# Altium footprint library TI - ADC.PcbLib: 213 footprints (part 2 of 14)
Each footprint in its own frame and in the unit in brackets; x right, y up, seen from the top. Pads: shape width x height; smd on the part's side, far side on the other; paste and mask are expansions set on the pad; w line width, h text height; cw(c..) or ccw(c..) is an arc to the next point about the centre after c.
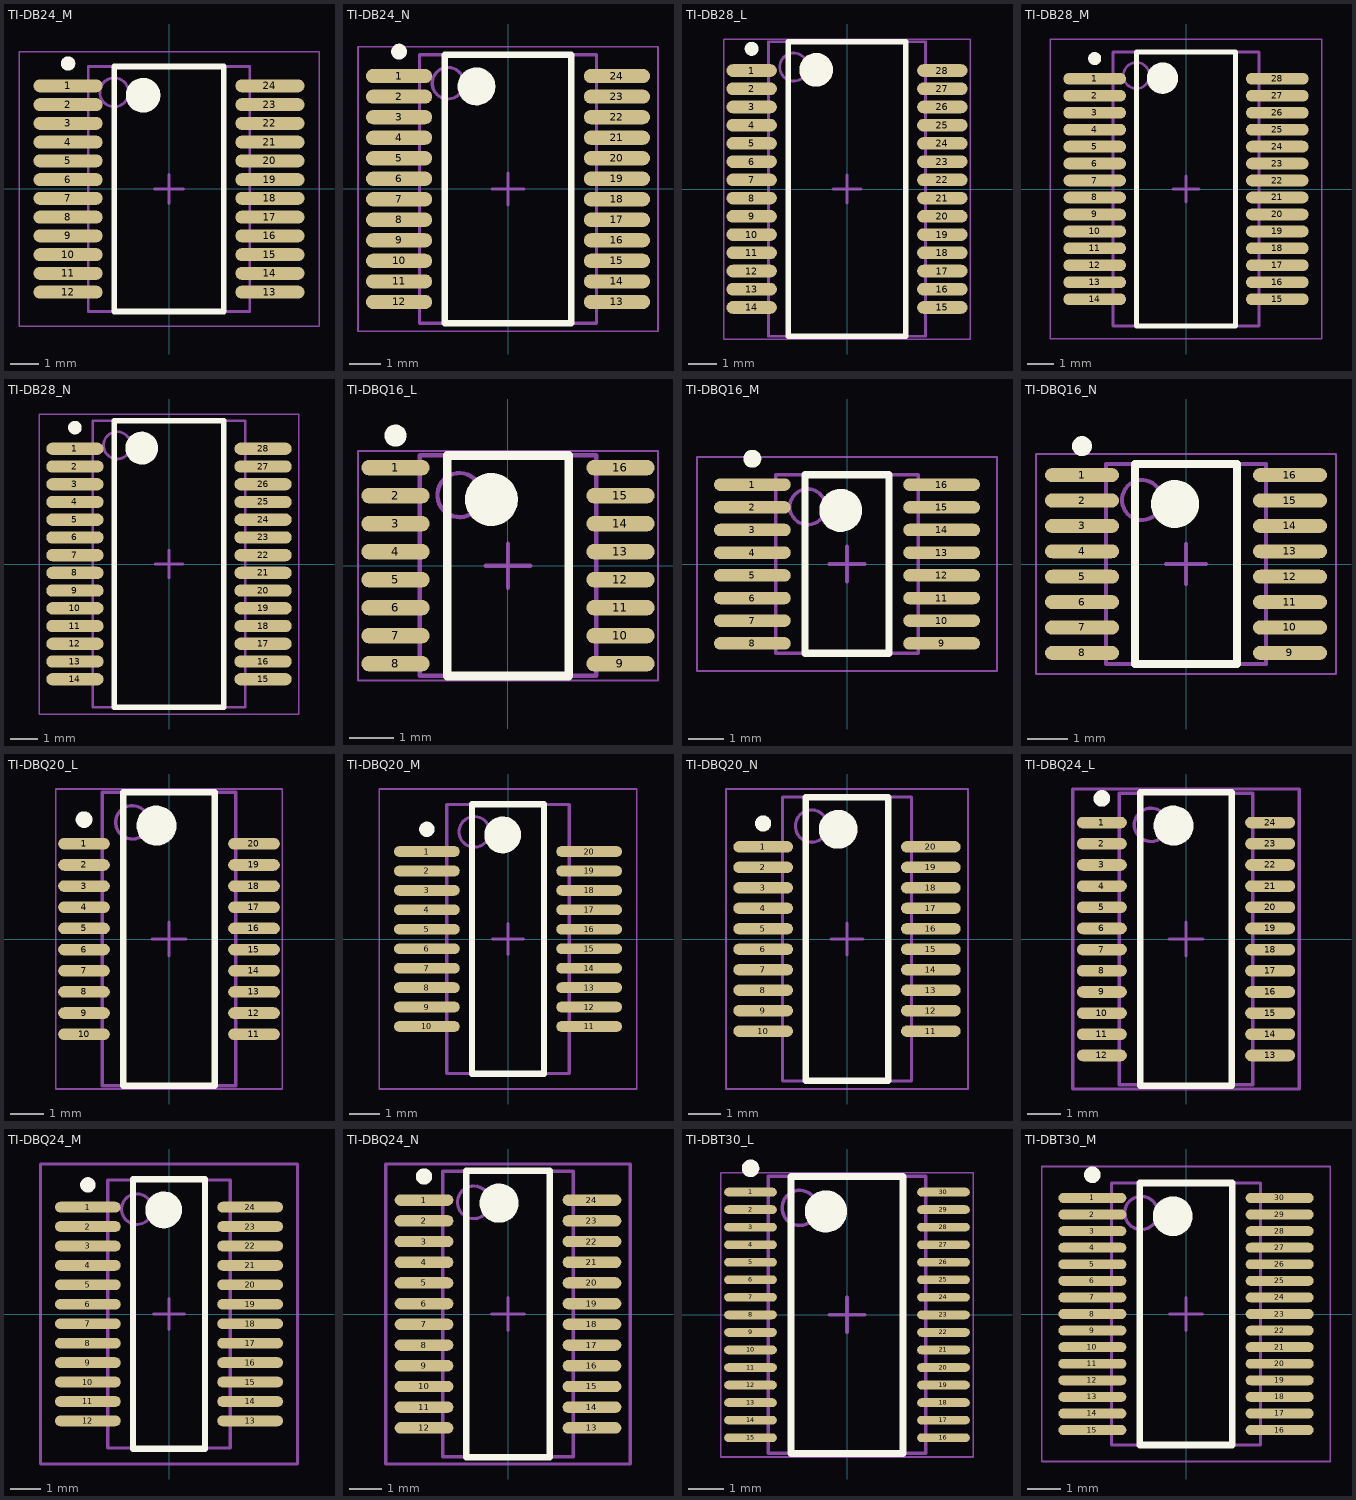
[diagram p1: the footprints below, top view; thin cyan lines are the x and y axes]

## TI-DB24_M [mm] "SOP, 24-Leads, Body 8.2x5.3mm, Pitch 0.65mm, IPC Low Density"
height 2
pads (24):
  oval 2.4x0.45 smd: 1(-3.5,3.575) 2(-3.5,2.925) 3(-3.5,2.275) 4(-3.5,1.625) 5(-3.5,0.975) 6(-3.5,0.325) 7(-3.5,-0.325) 8(-3.5,-0.975) 9(-3.5,-1.625) 10(-3.5,-2.275) 11(-3.5,-2.925) 12(-3.5,-3.575) 13(3.5,-3.575) 14(3.5,-2.925) 15(3.5,-2.275) 16(3.5,-1.625) 17(3.5,-0.975) 18(3.5,-0.325) 19(3.5,0.325) 20(3.5,0.975) 21(3.5,1.625) 22(3.5,2.275) 23(3.5,2.925) 24(3.5,3.575)
Top Overlay:
  circle w0.25: c-3.5,4.35 r0.125
  circle w0.6: c-0.9,3.25 r0.3
  lines w0.2: -1.9,-4.25 -1.9,4.25 1.9,4.25 1.9,-4.25 -1.9,-4.25
Mechanical 13:
  circle w0.1: c-1.9,3.35 r0.5
  lines w0.1: -2.8,-4.25 -2.8,4.25 2.8,4.25 2.8,-4.25 -2.8,-4.25
Mechanical 15:
  lines w0.05: -5.2,-4.75 -5.2,4.75 5.2,4.75 5.2,-4.75 -5.2,-4.75
  lines w0.1: -0.5,0 0.5,0 ; 0,-0.5 0,0.5
3D body: height 2, standoff 0.05, extent -2.8,-4.25 2.8,4.25

## TI-DB24_N [mm] "SOP, 24-Leads, Body 8.2x5.3mm, Pitch 0.65mm, IPC Medium Density"
height 2
pads (24):
  oval 2.1x0.45 smd: 1(-3.45,3.575) 2(-3.45,2.925) 3(-3.45,2.275) 4(-3.45,1.625) 5(-3.45,0.975) 6(-3.45,0.325) 7(-3.45,-0.325) 8(-3.45,-0.975) 9(-3.45,-1.625) 10(-3.45,-2.275) 11(-3.45,-2.925) 12(-3.45,-3.575) 13(3.45,-3.575) 14(3.45,-2.925) 15(3.45,-2.275) 16(3.45,-1.625) 17(3.45,-0.975) 18(3.45,-0.325) 19(3.45,0.325) 20(3.45,0.975) 21(3.45,1.625) 22(3.45,2.275) 23(3.45,2.925) 24(3.45,3.575)
Top Overlay:
  circle w0.25: c-3.45,4.35 r0.125
  circle w0.6: c-1,3.25 r0.3
  lines w0.2: -2,-4.25 -2,4.25 2,4.25 2,-4.25 -2,-4.25
Mechanical 13:
  circle w0.1: c-1.9,3.35 r0.5
  lines w0.1: -2.8,-4.25 -2.8,4.25 2.8,4.25 2.8,-4.25 -2.8,-4.25
Mechanical 15:
  lines w0.05: -4.75,-4.5 -4.75,4.5 4.75,4.5 4.75,-4.5 -4.75,-4.5
  lines w0.1: -0.5,0 0.5,0 ; 0,-0.5 0,0.5
3D body: height 2, standoff 0.05, extent -2.8,-4.25 2.8,4.25

## TI-DB28_L [mm] "SOP, 28-Leads, Body 10.2x5.3mm, Pitch 0.65mm, IPC High Density"
height 2
pads (28):
  oval 1.8x0.45 smd: 1(-3.4,4.225) 2(-3.4,3.575) 3(-3.4,2.925) 4(-3.4,2.275) 5(-3.4,1.625) 6(-3.4,0.975) 7(-3.4,0.325) 8(-3.4,-0.325) 9(-3.4,-0.975) 10(-3.4,-1.625) 11(-3.4,-2.275) 12(-3.4,-2.925) 13(-3.4,-3.575) 14(-3.4,-4.225) 15(3.4,-4.225) 16(3.4,-3.575) 17(3.4,-2.925) 18(3.4,-2.275) 19(3.4,-1.625) 20(3.4,-0.975) 21(3.4,-0.325) 22(3.4,0.325) 23(3.4,0.975) 24(3.4,1.625) 25(3.4,2.275) 26(3.4,2.925) 27(3.4,3.575) 28(3.4,4.225)
Top Overlay:
  circle w0.25: c-3.4,5 r0.125
  circle w0.6: c-1.1,4.25 r0.3
  lines w0.2: -2.1,-5.25 -2.1,5.25 2.1,5.25 2.1,-5.25 -2.1,-5.25
Mechanical 13:
  circle w0.1: c-1.9,4.35 r0.5
  lines w0.1: -2.8,-5.25 -2.8,5.25 2.8,5.25 2.8,-5.25 -2.8,-5.25
Mechanical 15:
  lines w0.05: -4.4,-5.35 -4.4,5.35 4.4,5.35 4.4,-5.35 -4.4,-5.35
  lines w0.1: -0.5,0 0.5,0 ; 0,-0.5 0,0.5
3D body: height 2, standoff 0.05, extent -2.8,-5.25 2.8,5.25

## TI-DB28_M [mm] "SOP, 28-Leads, Body 10.2x5.3mm, Pitch 0.65mm, IPC Low Density"
height 2
pads (28):
  oval 2.4x0.45 smd: 1(-3.5,4.225) 2(-3.5,3.575) 3(-3.5,2.925) 4(-3.5,2.275) 5(-3.5,1.625) 6(-3.5,0.975) 7(-3.5,0.325) 8(-3.5,-0.325) 9(-3.5,-0.975) 10(-3.5,-1.625) 11(-3.5,-2.275) 12(-3.5,-2.925) 13(-3.5,-3.575) 14(-3.5,-4.225) 15(3.5,-4.225) 16(3.5,-3.575) 17(3.5,-2.925) 18(3.5,-2.275) 19(3.5,-1.625) 20(3.5,-0.975) 21(3.5,-0.325) 22(3.5,0.325) 23(3.5,0.975) 24(3.5,1.625) 25(3.5,2.275) 26(3.5,2.925) 27(3.5,3.575) 28(3.5,4.225)
Top Overlay:
  circle w0.25: c-3.5,5 r0.125
  circle w0.6: c-0.9,4.25 r0.3
  lines w0.2: -1.9,-5.25 -1.9,5.25 1.9,5.25 1.9,-5.25 -1.9,-5.25
Mechanical 13:
  circle w0.1: c-1.9,4.35 r0.5
  lines w0.1: -2.8,-5.25 -2.8,5.25 2.8,5.25 2.8,-5.25 -2.8,-5.25
Mechanical 15:
  lines w0.05: -5.2,-5.75 -5.2,5.75 5.2,5.75 5.2,-5.75 -5.2,-5.75
  lines w0.1: -0.5,0 0.5,0 ; 0,-0.5 0,0.5
3D body: height 2, standoff 0.05, extent -2.8,-5.25 2.8,5.25

## TI-DB28_N [mm] "SOP, 28-Leads, Body 10.2x5.3mm, Pitch 0.65mm, IPC Medium Density"
height 2
pads (28):
  oval 2.1x0.45 smd: 1(-3.45,4.225) 2(-3.45,3.575) 3(-3.45,2.925) 4(-3.45,2.275) 5(-3.45,1.625) 6(-3.45,0.975) 7(-3.45,0.325) 8(-3.45,-0.325) 9(-3.45,-0.975) 10(-3.45,-1.625) 11(-3.45,-2.275) 12(-3.45,-2.925) 13(-3.45,-3.575) 14(-3.45,-4.225) 15(3.45,-4.225) 16(3.45,-3.575) 17(3.45,-2.925) 18(3.45,-2.275) 19(3.45,-1.625) 20(3.45,-0.975) 21(3.45,-0.325) 22(3.45,0.325) 23(3.45,0.975) 24(3.45,1.625) 25(3.45,2.275) 26(3.45,2.925) 27(3.45,3.575) 28(3.45,4.225)
Top Overlay:
  circle w0.25: c-3.45,5 r0.125
  circle w0.6: c-1,4.25 r0.3
  lines w0.2: -2,-5.25 -2,5.25 2,5.25 2,-5.25 -2,-5.25
Mechanical 13:
  circle w0.1: c-1.9,4.35 r0.5
  lines w0.1: -2.8,-5.25 -2.8,5.25 2.8,5.25 2.8,-5.25 -2.8,-5.25
Mechanical 15:
  lines w0.05: -4.75,-5.5 -4.75,5.5 4.75,5.5 4.75,-5.5 -4.75,-5.5
  lines w0.1: -0.5,0 0.5,0 ; 0,-0.5 0,0.5
3D body: height 2, standoff 0.05, extent -2.8,-5.25 2.8,5.25

## TI-DBQ16_L [mm] "SOP, 16-Leads, Body 4.9x3.9mm, Pitch 0.635mm, IPC High Density"
height 1.75
pads (16):
  oval 1.55x0.35 smd: 1(-2.55,2.222) 2(-2.55,1.587) 3(-2.55,0.953) 4(-2.55,0.318) 5(-2.55,-0.318) 6(-2.55,-0.953) 7(-2.55,-1.587) 8(-2.55,-2.222) 9(2.55,-2.222) 10(2.55,-1.587) 11(2.55,-0.953) 12(2.55,-0.318) 13(2.55,0.318) 14(2.55,0.953) 15(2.55,1.587) 16(2.55,2.222)
Top Overlay:
  circle w0.6: c-0.375,1.5 r0.3
  circle w0.25: c-2.55,2.947 r0.125
  lines w0.2: -1.375,-2.5 1.375,-2.5 1.375,2.5 -1.375,2.5 -1.375,-2.5
Mechanical 13:
  circle w0.1: c-1.1,1.6 r0.5
  lines w0.1: -2,-2.5 2,-2.5 2,2.5 -2,2.5 -2,-2.5
Mechanical 15:
  lines w0.05: -3.4,-2.6 3.4,-2.6 3.4,2.6 -3.4,2.6 -3.4,-2.6
  lines w0.1: -0.5,0 0.5,0 ; 0,-0.5 0,0.5
3D body: height 1.75, standoff 0.1, extent -2,-2.5 2,2.5

## TI-DBQ16_M [mm] "SOP, 16-Leads, Body 4.9x3.9mm, Pitch 0.635mm, IPC Low Density"
height 1.75
pads (16):
  oval 2.15x0.35 smd: 1(-2.65,2.222) 2(-2.65,1.587) 3(-2.65,0.953) 4(-2.65,0.318) 5(-2.65,-0.318) 6(-2.65,-0.953) 7(-2.65,-1.587) 8(-2.65,-2.222) 9(2.65,-2.222) 10(2.65,-1.587) 11(2.65,-0.953) 12(2.65,-0.318) 13(2.65,0.318) 14(2.65,0.953) 15(2.65,1.587) 16(2.65,2.222)
Top Overlay:
  circle w0.6: c-0.175,1.5 r0.3
  circle w0.25: c-2.65,2.947 r0.125
  lines w0.2: -1.175,-2.5 1.175,-2.5 1.175,2.5 -1.175,2.5 -1.175,-2.5
Mechanical 13:
  circle w0.1: c-1.1,1.6 r0.5
  lines w0.1: -2,-2.5 2,-2.5 2,2.5 -2,2.5 -2,-2.5
Mechanical 15:
  lines w0.05: -4.2,-3 4.2,-3 4.2,3 -4.2,3 -4.2,-3
  lines w0.1: -0.5,0 0.5,0 ; 0,-0.5 0,0.5
3D body: height 1.75, standoff 0.1, extent -2,-2.5 2,2.5

## TI-DBQ16_N [mm] "SOP, 16-Leads, Body 4.9x3.9mm, Pitch 0.635mm, IPC Medium Density"
height 1.75
pads (16):
  oval 1.85x0.35 smd: 1(-2.6,2.222) 2(-2.6,1.587) 3(-2.6,0.953) 4(-2.6,0.318) 5(-2.6,-0.318) 6(-2.6,-0.953) 7(-2.6,-1.587) 8(-2.6,-2.222) 9(2.6,-2.222) 10(2.6,-1.587) 11(2.6,-0.953) 12(2.6,-0.318) 13(2.6,0.318) 14(2.6,0.953) 15(2.6,1.587) 16(2.6,2.222)
Top Overlay:
  circle w0.6: c-0.275,1.5 r0.3
  circle w0.25: c-2.6,2.947 r0.125
  lines w0.2: -1.275,-2.5 1.275,-2.5 1.275,2.5 -1.275,2.5 -1.275,-2.5
Mechanical 13:
  circle w0.1: c-1.1,1.6 r0.5
  lines w0.1: -2,-2.5 2,-2.5 2,2.5 -2,2.5 -2,-2.5
Mechanical 15:
  lines w0.05: -3.75,-2.75 3.75,-2.75 3.75,2.75 -3.75,2.75 -3.75,-2.75
  lines w0.1: -0.5,0 0.5,0 ; 0,-0.5 0,0.5
3D body: height 1.75, standoff 0.1, extent -2,-2.5 2,2.5

## TI-DBQ20_L [mm] "SOP, 20-Leads, Body 8.65x3.9mm, Pitch 0.635mm, IPC High Density"
height 1.75
pads (20):
  oval 1.55x0.35 smd: 1(-2.55,2.857) 2(-2.55,2.222) 3(-2.55,1.587) 4(-2.55,0.953) 5(-2.55,0.318) 6(-2.55,-0.318) 7(-2.55,-0.953) 8(-2.55,-1.587) 9(-2.55,-2.222) 10(-2.55,-2.857) 11(2.55,-2.857) 12(2.55,-2.222) 13(2.55,-1.587) 14(2.55,-0.953) 15(2.55,-0.318) 16(2.55,0.318) 17(2.55,0.953) 18(2.55,1.587) 19(2.55,2.222) 20(2.55,2.857)
Top Overlay:
  circle w0.25: c-2.55,3.582 r0.125
  circle w0.6: c-0.375,3.4 r0.3
  lines w0.2: -1.375,-4.4 -1.375,4.4 1.375,4.4 1.375,-4.4 -1.375,-4.4
Mechanical 13:
  circle w0.1: c-1.1,3.5 r0.5
  lines w0.1: -2,-4.4 -2,4.4 2,4.4 2,-4.4 -2,-4.4
Mechanical 15:
  lines w0.05: -3.4,-4.5 -3.4,4.5 3.4,4.5 3.4,-4.5 -3.4,-4.5
  lines w0.1: -0.5,0 0.5,0 ; 0,-0.5 0,0.5
3D body: height 1.75, standoff 0.1, extent -2,-4.4 2,4.4

## TI-DBQ20_M [mm] "SOP, 20-Leads, Body 8.65x3.9mm, Pitch 0.635mm, IPC Low Density"
height 1.75
pads (20):
  oval 2.15x0.35 smd: 1(-2.65,2.857) 2(-2.65,2.222) 3(-2.65,1.587) 4(-2.65,0.953) 5(-2.65,0.318) 6(-2.65,-0.318) 7(-2.65,-0.953) 8(-2.65,-1.587) 9(-2.65,-2.222) 10(-2.65,-2.857) 11(2.65,-2.857) 12(2.65,-2.222) 13(2.65,-1.587) 14(2.65,-0.953) 15(2.65,-0.318) 16(2.65,0.318) 17(2.65,0.953) 18(2.65,1.587) 19(2.65,2.222) 20(2.65,2.857)
Top Overlay:
  circle w0.25: c-2.65,3.582 r0.125
  circle w0.6: c-0.175,3.4 r0.3
  lines w0.2: -1.175,-4.4 -1.175,4.4 1.175,4.4 1.175,-4.4 -1.175,-4.4
Mechanical 13:
  circle w0.1: c-1.1,3.5 r0.5
  lines w0.1: -2,-4.4 -2,4.4 2,4.4 2,-4.4 -2,-4.4
Mechanical 15:
  lines w0.05: -4.2,-4.9 -4.2,4.9 4.2,4.9 4.2,-4.9 -4.2,-4.9
  lines w0.1: -0.5,0 0.5,0 ; 0,-0.5 0,0.5
3D body: height 1.75, standoff 0.1, extent -2,-4.4 2,4.4

## TI-DBQ20_N [mm] "SOP, 20-Leads, Body 8.65x3.9mm, Pitch 0.635mm, IPC Medium Density"
height 1.75
pads (20):
  oval 1.85x0.35 smd: 1(-2.6,2.857) 2(-2.6,2.222) 3(-2.6,1.587) 4(-2.6,0.953) 5(-2.6,0.318) 6(-2.6,-0.318) 7(-2.6,-0.953) 8(-2.6,-1.587) 9(-2.6,-2.222) 10(-2.6,-2.857) 11(2.6,-2.857) 12(2.6,-2.222) 13(2.6,-1.587) 14(2.6,-0.953) 15(2.6,-0.318) 16(2.6,0.318) 17(2.6,0.953) 18(2.6,1.587) 19(2.6,2.222) 20(2.6,2.857)
Top Overlay:
  circle w0.25: c-2.6,3.582 r0.125
  circle w0.6: c-0.275,3.4 r0.3
  lines w0.2: -1.275,-4.4 -1.275,4.4 1.275,4.4 1.275,-4.4 -1.275,-4.4
Mechanical 13:
  circle w0.1: c-1.1,3.5 r0.5
  lines w0.1: -2,-4.4 -2,4.4 2,4.4 2,-4.4 -2,-4.4
Mechanical 15:
  lines w0.05: -3.75,-4.65 -3.75,4.65 3.75,4.65 3.75,-4.65 -3.75,-4.65
  lines w0.1: -0.5,0 0.5,0 ; 0,-0.5 0,0.5
3D body: height 1.75, standoff 0.1, extent -2,-4.4 2,4.4

## TI-DBQ24_L [mm] "SOP, 24-Leads, Body 8.65x6mm, Pitch 0.635mm, IPC High Density"
height 1.75
pads (24):
  oval 1.5x0.35 smd: 1(-2.525,3.492) 2(-2.525,2.857) 3(-2.525,2.222) 4(-2.525,1.587) 5(-2.525,0.953) 6(-2.525,0.318) 7(-2.525,-0.318) 8(-2.525,-0.953) 9(-2.525,-1.587) 10(-2.525,-2.222) 11(-2.525,-2.857) 12(-2.525,-3.492) 13(2.525,-3.492) 14(2.525,-2.857) 15(2.525,-2.222) 16(2.525,-1.587) 17(2.525,-0.953) 18(2.525,-0.318) 19(2.525,0.318) 20(2.525,0.953) 21(2.525,1.587) 22(2.525,2.222) 23(2.525,2.857) 24(2.525,3.492)
Top Overlay:
  circle w0.6: c-0.375,3.4 r0.3
  circle w0.25: c-2.525,4.217 r0.125
  lines w0.2: -1.375,-4.4 1.375,-4.4 1.375,4.4 -1.375,4.4 -1.375,-4.4
Mechanical 13:
  circle w0.1: c-1.05,3.425 r0.5
  lines w0.1: -2,-4.375 2,-4.375 2,4.375 -2,4.375 -2,-4.375
Mechanical 15:
  lines w0.1: -0.5,0 0.5,0 ; 0,-0.5 0,0.5 ; -3.4,-4.5 3.4,-4.5 3.4,4.5 -3.4,4.5 -3.4,-4.5
3D body: height 1.75, standoff 0.1, extent -2,-4.375 2,4.375

## TI-DBQ24_M [mm] "SOP, 24-Leads, Body 8.65x6mm, Pitch 0.635mm, IPC Low Density"
height 1.75
pads (24):
  oval 2.15x0.35 smd: 1(-2.65,3.492) 2(-2.65,2.857) 3(-2.65,2.222) 4(-2.65,1.587) 5(-2.65,0.953) 6(-2.65,0.318) 7(-2.65,-0.318) 8(-2.65,-0.953) 9(-2.65,-1.587) 10(-2.65,-2.222) 11(-2.65,-2.857) 12(-2.65,-3.492) 13(2.65,-3.492) 14(2.65,-2.857) 15(2.65,-2.222) 16(2.65,-1.587) 17(2.65,-0.953) 18(2.65,-0.318) 19(2.65,0.318) 20(2.65,0.953) 21(2.65,1.587) 22(2.65,2.222) 23(2.65,2.857) 24(2.65,3.492)
Top Overlay:
  circle w0.6: c-0.175,3.4 r0.3
  circle w0.25: c-2.65,4.217 r0.125
  lines w0.2: -1.175,-4.4 1.175,-4.4 1.175,4.4 -1.175,4.4 -1.175,-4.4
Mechanical 13:
  circle w0.1: c-1.05,3.425 r0.5
  lines w0.1: -2,-4.375 2,-4.375 2,4.375 -2,4.375 -2,-4.375
Mechanical 15:
  lines w0.1: -0.5,0 0.5,0 ; 0,-0.5 0,0.5 ; -4.2,-4.9 4.2,-4.9 4.2,4.9 -4.2,4.9 -4.2,-4.9
3D body: height 1.75, standoff 0.1, extent -2,-4.375 2,4.375

## TI-DBQ24_N [mm] "SOP, 24-Leads, Body 8.65x6mm, Pitch 0.635mm, IPC Medium Density"
height 1.75
pads (24):
  oval 1.8x0.35 smd: 1(-2.575,3.492) 2(-2.575,2.857) 3(-2.575,2.222) 4(-2.575,1.587) 5(-2.575,0.953) 6(-2.575,0.318) 7(-2.575,-0.318) 8(-2.575,-0.953) 9(-2.575,-1.587) 10(-2.575,-2.222) 11(-2.575,-2.857) 12(-2.575,-3.492) 13(2.575,-3.492) 14(2.575,-2.857) 15(2.575,-2.222) 16(2.575,-1.587) 17(2.575,-0.953) 18(2.575,-0.318) 19(2.575,0.318) 20(2.575,0.953) 21(2.575,1.587) 22(2.575,2.222) 23(2.575,2.857) 24(2.575,3.492)
Top Overlay:
  circle w0.6: c-0.275,3.4 r0.3
  circle w0.25: c-2.575,4.217 r0.125
  lines w0.2: -1.275,-4.4 1.275,-4.4 1.275,4.4 -1.275,4.4 -1.275,-4.4
Mechanical 13:
  circle w0.1: c-1.05,3.425 r0.5
  lines w0.1: -2,-4.375 2,-4.375 2,4.375 -2,4.375 -2,-4.375
Mechanical 15:
  lines w0.1: -0.5,0 0.5,0 ; 0,-0.5 0,0.5 ; -3.75,-4.6 3.75,-4.6 3.75,4.6 -3.75,4.6 -3.75,-4.6
3D body: height 1.75, standoff 0.1, extent -2,-4.375 2,4.375

## TI-DBT30_L [mm] "SOP, 30-Leads, Body 7.8x4.4mm, Pitch 0.5mm, IPC High Density"
height 1.2
pads (30):
  oval 1.5x0.25 smd: 1(-2.75,3.5) 2(-2.75,3) 3(-2.75,2.5) 4(-2.75,2) 5(-2.75,1.5) 6(-2.75,1) 7(-2.75,0.5) 8(-2.75,0) 9(-2.75,-0.5) 10(-2.75,-1) 11(-2.75,-1.5) 12(-2.75,-2) 13(-2.75,-2.5) 14(-2.75,-3) 15(-2.75,-3.5) 16(2.75,-3.5) 17(2.75,-3) 18(2.75,-2.5) 19(2.75,-2) 20(2.75,-1.5) 21(2.75,-1) 22(2.75,-0.5) 23(2.75,0) 24(2.75,0.5) 25(2.75,1) 26(2.75,1.5) 27(2.75,2) 28(2.75,2.5) 29(2.75,3) 30(2.75,3.5)
Top Overlay:
  circle w0.25: c-2.75,4.175 r0.125
  circle w0.6: c-0.6,2.95 r0.3
  lines w0.2: -1.6,-3.95 -1.6,3.95 1.6,3.95 1.6,-3.95 -1.6,-3.95
Mechanical 13:
  circle w0.1: c-1.35,3.05 r0.5
  lines w0.1: -2.25,-3.95 -2.25,3.95 2.25,3.95 2.25,-3.95 -2.25,-3.95
Mechanical 15:
  lines w0.05: -3.6,-4.05 -3.6,4.05 3.6,4.05 3.6,-4.05 -3.6,-4.05
  lines w0.1: -0.5,0 0.5,0 ; 0,-0.5 0,0.5
3D body: height 1.2, standoff 0.05, extent -2.25,-3.95 2.25,3.95

## TI-DBT30_M [mm] "SOP, 30-Leads, Body 7.8x4.4mm, Pitch 0.5mm, IPC Low Density"
height 1.2
pads (30):
  oval 2.05x0.3 smd: 1(-2.825,3.5) 2(-2.825,3) 3(-2.825,2.5) 4(-2.825,2) 5(-2.825,1.5) 6(-2.825,1) 7(-2.825,0.5) 8(-2.825,0) 9(-2.825,-0.5) 10(-2.825,-1) 11(-2.825,-1.5) 12(-2.825,-2) 13(-2.825,-2.5) 14(-2.825,-3) 15(-2.825,-3.5) 16(2.825,-3.5) 17(2.825,-3) 18(2.825,-2.5) 19(2.825,-2) 20(2.825,-1.5) 21(2.825,-1) 22(2.825,-0.5) 23(2.825,0) 24(2.825,0.5) 25(2.825,1) 26(2.825,1.5) 27(2.825,2) 28(2.825,2.5) 29(2.825,3) 30(2.825,3.5)
Top Overlay:
  circle w0.25: c-2.825,4.2 r0.125
  circle w0.6: c-0.4,2.95 r0.3
  lines w0.2: -1.4,-3.95 -1.4,3.95 1.4,3.95 1.4,-3.95 -1.4,-3.95
Mechanical 13:
  circle w0.1: c-1.35,3.05 r0.5
  lines w0.1: -2.25,-3.95 -2.25,3.95 2.25,3.95 2.25,-3.95 -2.25,-3.95
Mechanical 15:
  lines w0.05: -4.35,-4.45 -4.35,4.45 4.35,4.45 4.35,-4.45 -4.35,-4.45
  lines w0.1: -0.5,0 0.5,0 ; 0,-0.5 0,0.5
3D body: height 1.2, standoff 0.05, extent -2.25,-3.95 2.25,3.95